# EAGLE library part 110-93-964-41-001000 (library SamacSys_Parts)
IC & Component Sockets 64P TIN PIN GLD CONT Source: Datasheet <https://componentsearchengine.com/Datasheets/1/110-93-964-41-001000.pdf>
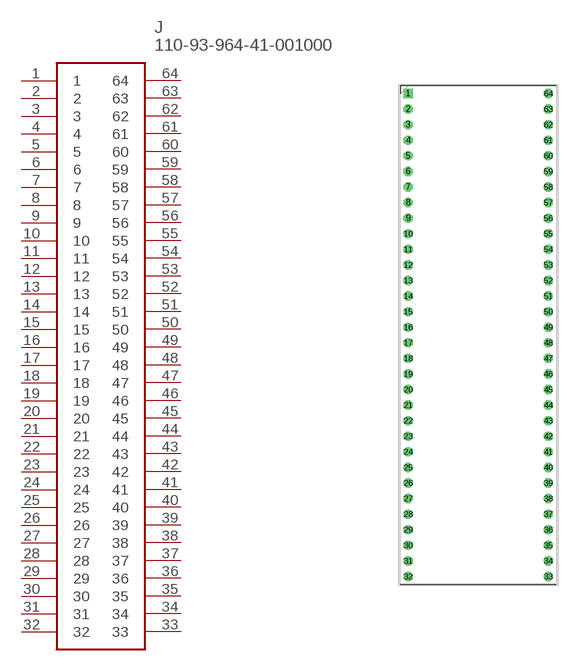
[diagram p245: symbol with the pads of DIPS2286W51P254L8128H419Q64N; footprint DIPS2286W51P254L8128H419Q64N]

Designator prefix J

## 110-93-964-41-001000 (DESCRIPTION: IC & Component Sockets 64P TIN PIN GLD CONT; HEIGHT: 4.191mm; MANUFACTURER_NAME: Mill-Max; MANUFACTURER_PART_NUMBER: 110-93-964-41-001000; MOUSER_PART_NUMBER: 575-193964; MOUSER_PRICE-STOCK: https://www.mouser.com/Search/Refine.aspx?Keyword=575-193964)  [DIPS2286W51P254L8128H419Q64N]
1  1
2  2
3  3
4  4
5  5
6  6
7  7
8  8
9  9
10  10
11  11
12  12
13  13
14  14
15  15
16  16
17  17
18  18
19  19
20  20
21  21
22  22
23  23
24  24
25  25
26  26
27  27
28  28
29  29
30  30
31  31
32  32
33  33
34  34
35  35
36  36
37  37
38  38
39  39
40  40
41  41
42  42
43  43
44  44
45  45
46  46
47  47
48  48
49  49
50  50
51  51
52  52
53  53
54  54
55  55
56  56
57  57
58  58
59  59
60  60
61  61
62  62
63  63
64  64

## Footprint DIPS2286W51P254L8128H419Q64N (pad centres in mm)
110-93-964-41-001000
drill 1 square: 1 0,0
drill 1 octagon: 2 0,-2.54; 3 0,-5.08; 4 0,-7.62; 5 0,-10.16; 6 0,-12.7; 7 0,-15.24; 8 0,-17.78; 9 0,-20.32; 10 0,-22.86; 11 0,-25.4; 12 0,-27.94; 13 0,-30.48; 14 0,-33.02; 15 0,-35.56; 16 0,-38.1; 17 0,-40.64; 18 0,-43.18; 19 0,-45.72; 20 0,-48.26; 21 0,-50.8; 22 0,-53.34; 23 0,-55.88; 24 0,-58.42; 25 0,-60.96; 26 0,-63.5; 27 0,-66.04; 28 0,-68.58; 29 0,-71.12; 30 0,-73.66; 31 0,-76.2; 32 0,-78.74; 33 22.86,-78.74; 34 22.86,-76.2; 35 22.86,-73.66; 36 22.86,-71.12; 37 22.86,-68.58; 38 22.86,-66.04; 39 22.86,-63.5; 40 22.86,-60.96; 41 22.86,-58.42; 42 22.86,-55.88; 43 22.86,-53.34; 44 22.86,-50.8; 45 22.86,-48.26; 46 22.86,-45.72; 47 22.86,-43.18; 48 22.86,-40.64; 49 22.86,-38.1; 50 22.86,-35.56; 51 22.86,-33.02; 52 22.86,-30.48; 53 22.86,-27.94; 54 22.86,-25.4; 55 22.86,-22.86; 56 22.86,-20.32; 57 22.86,-17.78; 58 22.86,-15.24; 59 22.86,-12.7; 60 22.86,-10.16; 61 22.86,-7.62; 62 22.86,-5.08; 63 22.86,-2.54; 64 22.86,0